# Altium schematic symbol library Schlib1.SchLib: 1 symbol
Pins are listed as number, name and electrical type; pins without a type are passive.

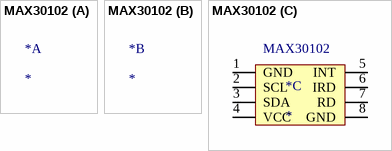
[diagram p0: symbol MAX30102]

## MAX30102
designator *
footprint PCBComponent_1
part C pins: 1 GND, 2 SCL, 3 SDA, 4 VCC, 5 INT, 6 IRD, 7 RD, 8 GND